# Altium schematic symbol library AP34063_SOP8.SchLib: 1 symbol
Pins are listed as number, name and electrical type; pins without a type are passive.

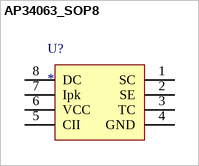
[diagram p0: symbol AP34063_SOP8]

## AP34063_SOP8
designator U?
pins: 1 SC, 2 SE, 3 TC, 4 GND, 5 CII, 6 VCC, 7 Ipk, 8 DC